# Altium schematic symbol library XFR,Flyback,WURTH_750310355.SchLib: 1 symbol
Pins are listed as number, name and electrical type; pins without a type are passive.

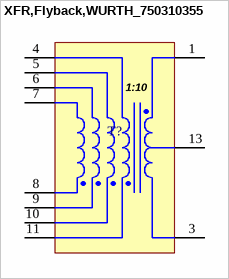
[diagram p0: symbol XFR,Flyback,WURTH_750310355]

## XFR,Flyback,WURTH_750310355
designator T?
pins: 1, 3, 4, 5, 6, 7, 8, 9, 10, 11, 13
text: 1:10